# EAGLE library part ULN2003AI (library Discrete Semi - BJTs - Arrays)
ULN2003AI Darlington Transistor Array Ic,peak: 500mA Vcc: 50V Vin: 30V 2.7k series base resistor
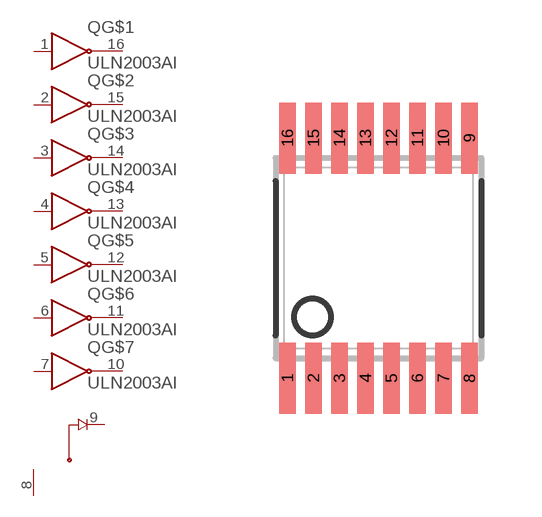
[diagram p1: symbol with the pads of TSSOP-16; footprint TSSOP-16]

Designator prefix Q; gates G$1=DARL_DRIVER G$2=DARL_DRIVER G$3=DARL_DRIVER G$4=DARL_DRIVER G$5=DARL_DRIVER G$6=DARL_DRIVER G$7=DARL_DRIVER G$8=GND_COM

## ULN2003AIPWR  [TSSOP-16]
1  G$1:B
2  G$2:B
3  G$3:B
4  G$4:B
5  G$5:B
6  G$6:B
7  G$7:B
8  G$8:GND
9  G$8:COM
10  G$7:C
11  G$6:C
12  G$5:C
13  G$4:C
14  G$3:C
15  G$2:C
16  G$1:C

## Footprint TSSOP-16 (pad centres in mm)
Thin Shrink Small Outline Plastic 16
smd 0.42 x 1.78: 1 -1.95,-3; 2 -1.3,-3; 3 -0.65,-3; 4 0,-3; 5 0.65,-3; 6 1.3,-3; 7 1.95,-3; 8 2.6,-3; 9 2.6,3; 10 1.95,3; 11 1.3,3; 12 0.65,3; 13 0,3; 14 -0.65,3; 15 -1.3,3; 16 -1.95,3